# EAGLE library part MAX7456 (library custom)
OSD Video Generator IC
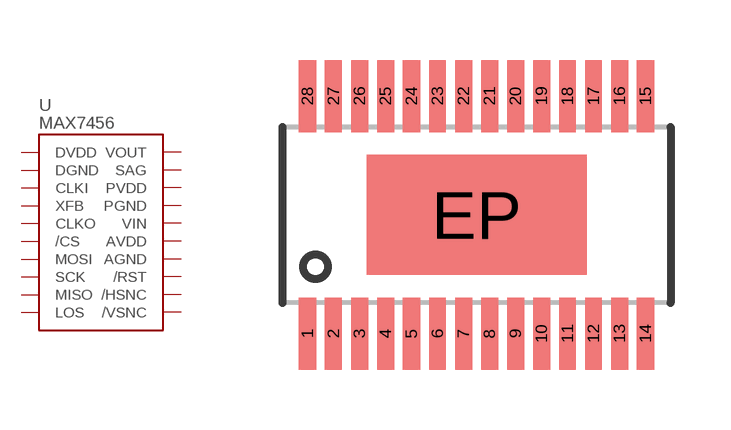
[diagram p52: symbol with the pads of 28-TSSOP_EP; footprint 28-TSSOP_EP]

Designator prefix U

## MAX7456  [28-TSSOP_EP]
3  DVDD
4  DGND
5  CLKI
6  XFB
7  CLKO
8  /CS
9  MOSI
10  SCK
11  MISO
12  LOS
17  /VSNC
18  /HSNC
19  /RST
20  AGND
21  AVDD
22  VIN
23  PGND
24  PVDD
25  SAG
26  VOUT
EP  AGND

## Footprint 28-TSSOP_EP (pad centres in mm)
smd 0.425 x 1.8: 1 -4.225,-2.97; 2 -3.575,-2.97; 3 -2.925,-2.97; 4 -2.275,-2.97; 5 -1.625,-2.97; 6 -0.975,-2.97; 7 -0.325,-2.97; 8 0.325,-2.97; 9 0.975,-2.97; 10 1.625,-2.97; 11 2.275,-2.97; 12 2.925,-2.97; 13 3.575,-2.97; 14 4.225,-2.97; 15 4.225,2.97; 16 3.575,2.97; 17 2.925,2.97; 18 2.275,2.97; 19 1.625,2.97; 20 0.975,2.97; 21 0.325,2.97; 22 -0.325,2.97; 23 -0.975,2.97; 24 -1.625,2.97; 25 -2.275,2.97; 26 -2.925,2.97; 27 -3.575,2.97; 28 -4.225,2.97
smd 5.5 x 3: EP 0,0